# EAGLE library part SP323EB_2 (library SP3232EB)
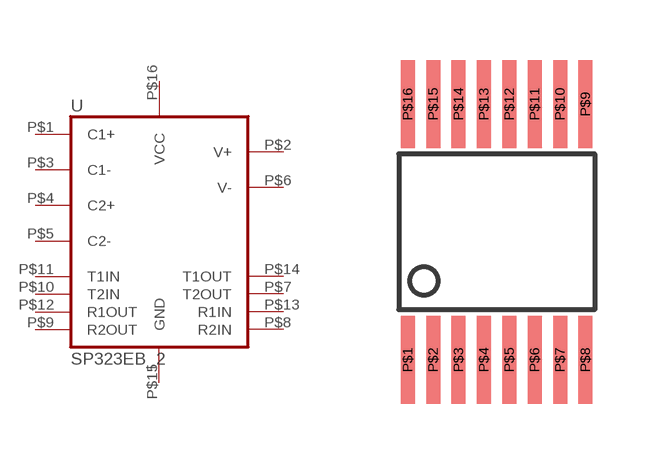
[diagram p0: symbol with the pads of SSOP-16; footprint SSOP-16]

Designator prefix -

## SP323EB_2  [SSOP-16]
P$1  C1+
P$2  V+
P$3  C1-
P$4  C2+
P$5  C2-
P$6  V-
P$7  T2OUT  out
P$8  R2IN  in
P$9  R2OUT  out
P$10  T2IN  in
P$11  T1IN  in
P$12  R1OUT  out
P$13  R1IN  in
P$14  T1OUT  out
P$15  GND
P$16  VCC

## Footprint SSOP-16 (pad centres in mm)
smd 0.35 x 2.2: P$1 -2.223,-3.2; P$2 -1.587,-3.2; P$3 -0.953,-3.2; P$4 -0.318,-3.2; P$5 0.318,-3.2; P$6 0.953,-3.2; P$7 1.587,-3.2; P$8 2.223,-3.2; P$9 2.223,3.2; P$10 1.587,3.2; P$11 0.953,3.2; P$12 0.318,3.2; P$13 -0.318,3.2; P$14 -0.953,3.2; P$15 -1.587,3.2; P$16 -2.223,3.2